# Altium schematic symbol library L298N_module.SchLib: 1 symbol
Pins are listed as number, name and electrical type; pins without a type are passive.

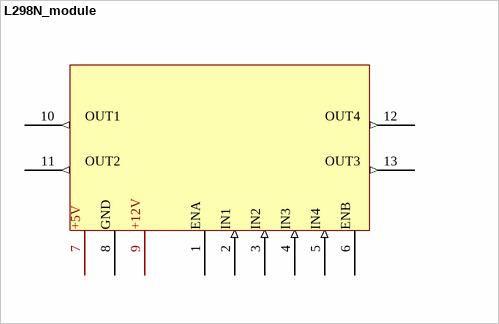
[diagram p0: symbol L298N_module]

## L298N_module
designator *
pins: 1 ENA "Enables Channel A", 2 IN1 (in) "Input to Channel A", 3 IN2 (in) "Input to Channel A", 4 IN3 (in) "Input to Channel B", 5 IN4 (in) "Input to Channel B", 6 ENB "Enables Channel B", 7 +5V (power) "Logic voltage", 8 GND (power) "Ground", 9 +12V (power) "Motor Supply", 10 OUT1  (out) "Motor A Output", 11 OUT2 (out) "Motor A Output", 12 OUT4 (out) "Motor B Output", 13 OUT3 (out) "Motor B Output"